# EAGLE library part LMZ12002_NDW_7 (library power-switcher-lmz12002)
TI LMZ12002 - Power switcher with max. 20V input Technical Specifications: Vin: 4.5-20V Vout: 0.8-6V Iout: 2A Operating Temperature: -40°C to 125°C Digikey: LMZ12002TZ-ADJ/NOPBCT-ND Mouser: 926-LM12002TZXADJNPB
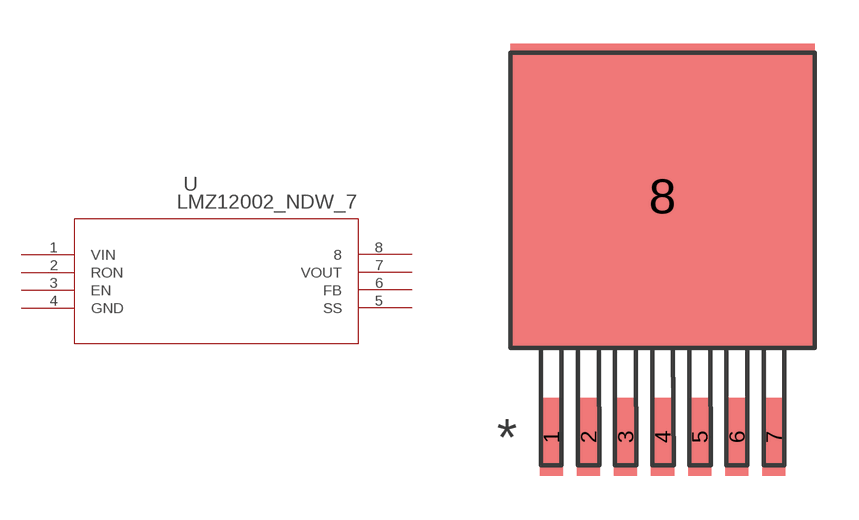
[diagram p0: symbol with the pads of TZA07A; footprint TZA07A]

Designator prefix U

## LMZ12002_NDW_7 (BASEPN: LMZ12002; DATASHEETURL: http://www.ti.com/lit/ds/symlink/lmz12002.pdf; DESCRIPTION: 2A SIMPLE SWITCHER® Power Module with 20V Maximum Input Voltage; MANUFACTURER: Texas Instruments; MANUFACTURER_PART_NUMBER: lmz12002_ndw_7; NSC_PACKAGEREFERENCE: TZA07A; VENDOR: Texas Instruments)  [TZA07A]
1  VIN  in
2  RON  pas
3  EN  in
4  GND  pwr
5  SS  pas
6  FB  in
7  VOUT  out
8  8  pas

## Footprint TZA07A (pad centres in mm)
smd 0.787 x 2.667: 1 -3.81,-8.09; 2 -2.54,-8.09; 3 -1.27,-8.09; 4 0,-8.09; 5 1.27,-8.09; 6 2.54,-8.09; 7 3.81,-8.09
smd 10.414 x 10.414: 8 0,0.152